# EAGLE library part 87833-48 (library untitled)
HEADER
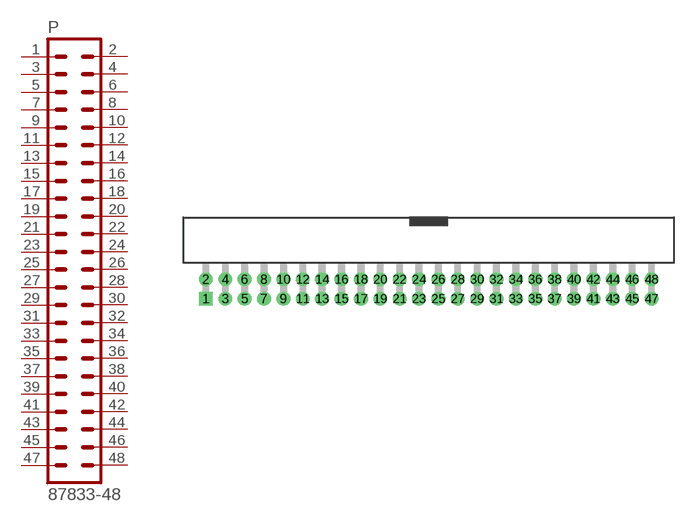
[diagram p70: symbol with the pads of 87833-48; footprint 87833-48]

Designator prefix P

## 87833-48  [87833-48]
1  1  pas
2  2  pas
3  3  pas
4  4  pas
5  5  pas
6  6  pas
7  7  pas
8  8  pas
9  9  pas
10  10  pas
11  11  pas
12  12  pas
13  13  pas
14  14  pas
15  15  pas
16  16  pas
17  17  pas
18  18  pas
19  19  pas
20  20  pas
21  21  pas
22  22  pas
23  23  pas
24  24  pas
25  25  pas
26  26  pas
27  27  pas
28  28  pas
29  29  pas
30  30  pas
31  31  pas
32  32  pas
33  33  pas
34  34  pas
35  35  pas
36  36  pas
37  37  pas
38  38  pas
39  39  pas
40  40  pas
41  41  pas
42  42  pas
43  43  pas
44  44  pas
45  45  pas
46  46  pas
47  47  pas
48  48  pas

## Footprint 87833-48 (pad centres in mm)
HEADER Dual Row, Shrouded, Right Angle
drill 0.914 square: 1 -23,-1
drill 0.914 round: 2 -23,1; 3 -21,-1; 4 -21,1; 5 -19,-1; 6 -19,1; 7 -17,-1; 8 -17,1; 9 -15,-1; 10 -15,1; 11 -13,-1; 12 -13,1; 13 -11,-1; 14 -11,1; 15 -9,-1; 16 -9,1; 17 -7,-1; 18 -7,1; 19 -5,-1; 20 -5,1; 21 -3,-1; 22 -3,1; 23 -1,-1; 24 -1,1; 25 1,-1; 26 1,1; 27 3,-1; 28 3,1; 29 5,-1; 30 5,1; 31 7,-1; 32 7,1; 33 9,-1; 34 9,1; 35 11,-1; 36 11,1; 37 13,-1; 38 13,1; 39 15,-1; 40 15,1; 41 17,-1; 42 17,1; 43 19,-1; 44 19,1; 45 21,-1; 46 21,1; 47 23,-1; 48 23,1